# EAGLE library part TLP2662F (library ServoController)
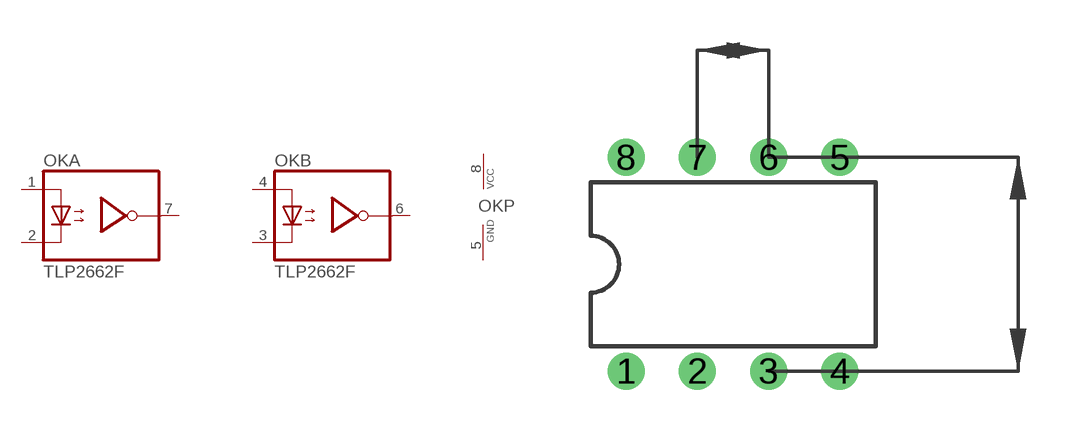
[diagram p10: symbol with the pads of DIL08; footprint DIL08]

Designator prefix OK; gates A=TL2662 B=TL2662 P=VCC-GND

## TLP2662F  [DIL08]
1  A:A  pas
2  A:C  pas
3  B:C  pas
4  B:A  pas
5  P:GND  pwr
6  B:VO  pas
7  A:VO  pas
8  P:VCC  pwr

## Footprint DIL08 (pad centres in mm)
Dual In Line Package
drill 0.813 pad 1.27: 1 -3.81,-3.81; 2 -1.27,-3.81; 3 1.27,-3.81; 4 3.81,-3.81; 5 3.81,3.81; 6 1.27,3.81; 7 -1.27,3.81; 8 -3.81,3.81